# EAGLE library part A4988 (library A4988)
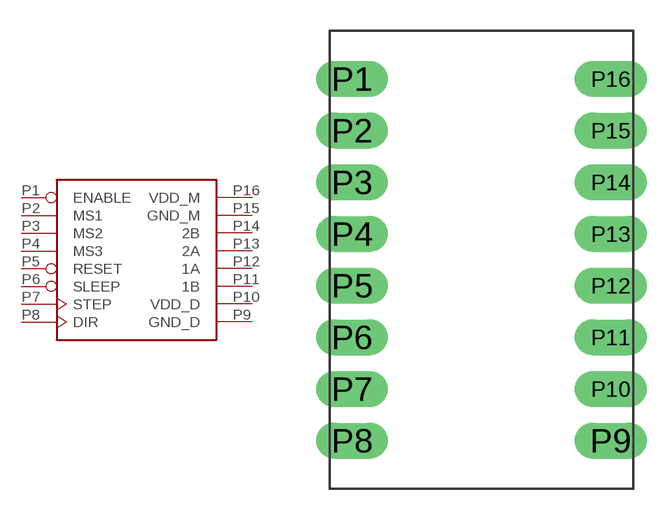
[diagram p0: symbol with the pads of A4988; footprint A4988]

Designator prefix -

## A4988  [A4988]
P1  ENABLE  in
P2  MS1  in
P3  MS2  in
P4  MS3  in
P5  RESET  in
P6  SLEEP  in
P7  STEP  in
P8  DIR  in
P9  GND_D  pwr
P10  VDD_D  pwr
P11  1B  out
P12  1A  out
P13  2A  out
P14  2B  out
P15  GND_M  pwr
P16  VDD_M  pwr

## Footprint A4988 (pad centres in mm)
drill 0.6 pad 1.778 long: P1 -6.35,7.62; P2 -6.35,5.08; P3 -6.35,2.54; P4 -6.35,0; P5 -6.35,-2.54; P6 -6.35,-5.08; P7 -6.35,-7.62; P8 -6.35,-10.16; P9 6.35,-10.16; P10 6.35,-7.62; P11 6.35,-5.08; P12 6.35,-2.54; P13 6.35,0; P14 6.35,2.54; P15 6.35,5.08; P16 6.35,7.62